# Altium footprint library CONAN-25_M.PcbLib: 1 footprints
Each footprint in its own frame and in the unit in brackets; x right, y up, seen from the top. Pads: shape width x height; smd on the part's side, far side on the other; paste and mask are expansions set on the pad; w line width, h text height; cw(c..) or ccw(c..) is an arc to the next point about the centre after c.
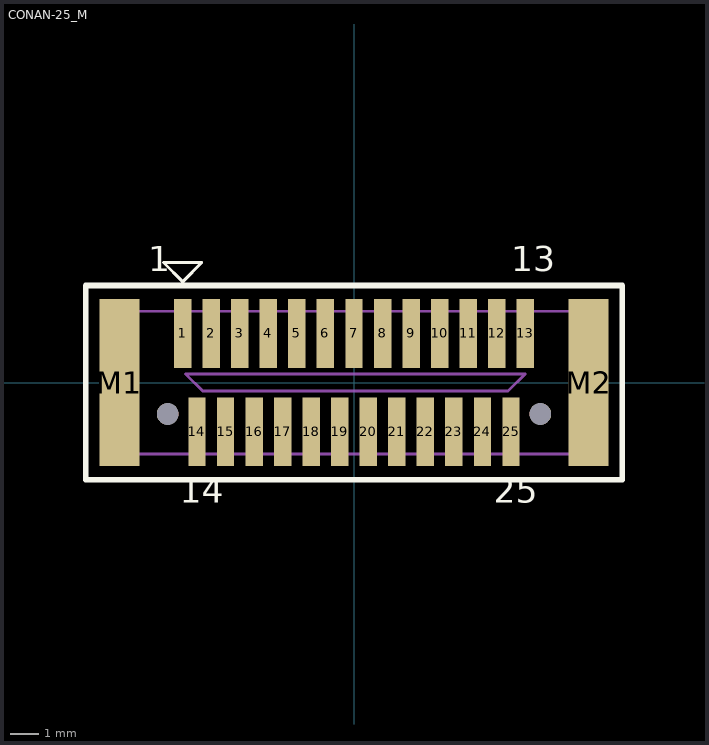
[diagram p0: the footprint, top view; thin cyan lines are the x and y axes]

## CONAN-25_M [mm]
pads (29):
  rect 0.61x2.41 smd: 1(-6,1.72) 2(-5,1.72) 3(-4,1.72) 4(-3,1.72) 5(-2,1.72) 6(-1,1.72) 7(0,1.72) 8(1,1.72) 9(2,1.72) 10(3,1.72) 11(4,1.72) 12(5,1.72) 13(6,1.72) 14(-5.5,-1.72) 15(-4.5,-1.72) 16(-3.5,-1.72) 17(-2.5,-1.72) 18(-1.5,-1.72) 19(-0.5,-1.72) 20(0.5,-1.72) 21(1.5,-1.72) 22(2.5,-1.72) 23(3.5,-1.72) 24(4.5,-1.72) 25(5.5,-1.72)
  rect 1.4x5.85 smd: M1(-8.22,0) M2(8.22,0)
  round 0.76 hole 0.762 unplated: ""(-6.528,-1.1) ""(6.528,-1.1)
Top Overlay:
  lines w0.1: -6.67,4.2 -5.33,4.2 -6,3.53 -6.67,4.2
  lines w0.2: -9.4,-3.4 -9.4,3.4 9.4,3.4 9.4,-3.4 -9.4,-3.4
  text "14" at -6.1,-4.5 h1.5
  text "25" at 4.9,-4.5 h1.5
  text "13" at 5.5,3.6 h1.5
  text "1" at -7.2,3.6 h1.5
Mechanical 13:
  lines w0.1: -8.65,-2.5 8.65,-2.5 8.65,2.5 -8.65,2.5 -8.65,-2.5 ; -5.9,0.3 6,0.3 5.4,-0.3 -5.3,-0.3 -5.9,0.3
3D body: height 3.2, standoff 0, extent -8.7,-2.55 8.7,2.55